# Altium footprint library Pathos.PcbLib: 67 footprints (part 4 of 5)
Each footprint in its own frame and in the unit in brackets; x right, y up, seen from the top. Pads: shape width x height; smd on the part's side, far side on the other; paste and mask are expansions set on the pad; w line width, h text height; cw(c..) or ccw(c..) is an arc to the next point about the centre after c.
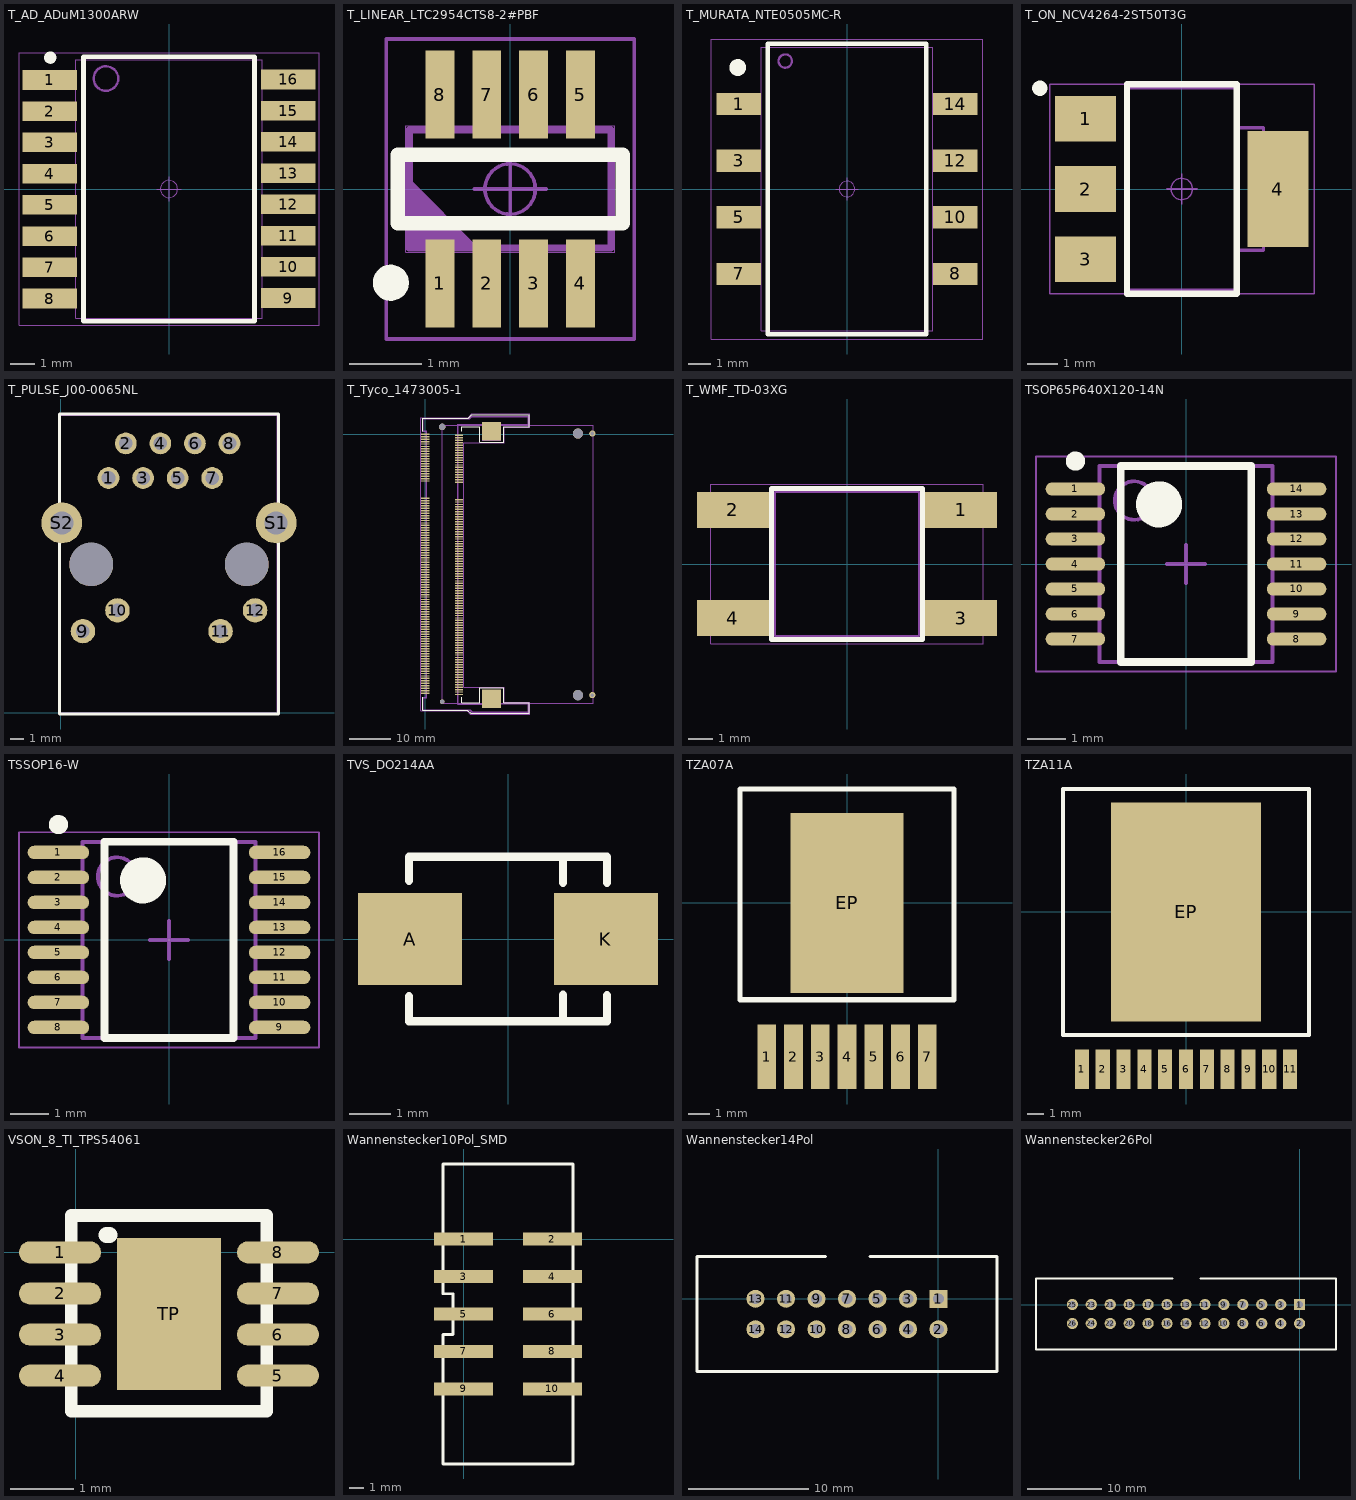
[diagram p3: the footprints below, top view; thin cyan lines are the x and y axes]

## T_AD_ADuM1300ARW [mm] "SOIC _W 16 pin"
height 2.65
pads (16):
  rect 2.2x0.8 smd: 1(-4.85,4.435) 2(-4.85,3.165) 3(-4.85,1.895) 4(-4.85,0.625) 5(-4.85,-0.645) 6(-4.85,-1.915) 7(-4.85,-3.185) 8(-4.85,-4.455) 9(4.85,-4.435) 10(4.85,-3.165) 11(4.85,-1.895) 12(4.85,-0.625) 13(4.85,0.645) 14(4.85,1.915) 15(4.85,3.185) 16(4.85,4.455)
Top Overlay:
  circle w0.25: c-4.829,5.343 r0.125
  lines w0.2: 3.481,-5.378 -3.481,-5.378 -3.481,5.377 3.481,5.377 3.481,-5.377
Mechanical 2:
  lines w0.001: -3.8,-5.25 -3.8,5.25 3.8,5.25 3.8,-5.25 -3.8,-5.25
Mechanical 3:
  circle w0.1: c-2.565,4.493 r0.5
  lines w0.1: -3.481,-5.378 -3.481,5.377 3.481,5.377 3.481,-5.378 -3.481,-5.378
Mechanical 13:
  circle w0.05: c0,0 r0.35
  lines w0.05: -0.5,0 0.5,0 ; 0,-0.5 0,0.5 ; -6.1,-5.536 6.1,-5.536 6.1,5.535 -6.1,5.535 -6.1,-5.536
3D body: height 2.65, standoff 0, extent -3.8,-5.25 3.8,5.25

## T_LINEAR_LTC2954CTS8-2#PBF [mm]
height 1
pads (8):
  rect 0.4x1.22 smd: 1(-0.975,-1.31) 2(-0.325,-1.31) 3(0.325,-1.31) 4(0.975,-1.31) 5(0.975,1.31) 6(0.325,1.31) 7(-0.325,1.31) 8(-0.975,1.31)
Top Overlay:
  circle w0.25: c-1.655,-1.3 r0.125
  lines w0.2: -1.56,-0.475 1.56,-0.475 1.56,0.475 -1.56,0.475 -1.56,-0.475
Mechanical 2:
  lines w0.001: -1.45,-0.875 -1.45,0.875 1.45,0.875 1.45,-0.875 -1.45,-0.875
Mechanical 3:
  lines w0.1: -1.4,-0.72 -1.3,-0.82 ; -1.4,-0.62 -1.2,-0.82 ; -1.4,-0.52 -1.1,-0.82 ; -1.4,-0.42 -1,-0.82 ; -1.4,-0.32 -0.9,-0.82 ; -1.4,-0.22 -0.8,-0.82 ; -1.4,-0.12 -0.7,-0.82 ; -1.4,-0.02 -0.6,-0.82 ; -1.4,0.08 -0.5,-0.82 ; -1.4,-0.82 1.4,-0.82 1.4,0.82 -1.4,0.82 -1.4,-0.82
Mechanical 13:
  circle w0.05: c0,0 r0.35
  lines w0.05: -1.72,-2.08 1.72,-2.08 ; -1.72,-2.07 -1.72,2.08 1.72,2.08 1.72,-2.07 ; -0.5,0 0.5,0 ; 0,-0.5 0,0.5
3D body: height 1, standoff 0, extent -1.45,-0.875 1.45,0.875

## T_MURATA_NTE0505MC-R [mm] "Isolated DC/DC converter"
height 6.6
pads (8):
  rect 2x1 smd: 1(-4.85,3.81) 3(-4.85,1.27) 5(-4.85,-1.27) 7(-4.85,-3.81) 8(4.85,-3.81) 10(4.85,-1.27) 12(4.85,1.27) 14(4.85,3.81)
Top Overlay:
  circle w0.5: c-4.905,5.45 r0.125
  lines w0.2: -3.56,-6.51 3.56,-6.51 3.56,6.51 -3.56,6.51 -3.56,-6.51
Mechanical 2:
  lines w0.001: -3.85,-6.35 3.85,-6.35 3.85,6.35 -3.85,6.35 -3.85,-6.35
Mechanical 3:
  circle w0.1: c-2.77,5.74 r0.3
  lines w0.1: -3.56,-6.51 -3.56,6.51 3.56,6.51 3.56,-6.51 -3.56,-6.51
Mechanical 13:
  circle w0.05: c0,0 r0.35
  lines w0.05: -0.5,0 0.5,0 ; 0,-0.5 0,0.5 ; -6.08,-6.73 6.08,-6.73 6.08,6.73 -6.08,6.73 -6.08,-6.73
3D body: height 6.6, standoff 0, extent -3.85,-6.35 3.85,6.35

## T_ON_NCV4264-2ST50T3G [mm] "SO4"
height 1.8
pads (4):
  rect 2x1.5 smd: 1(-3.15,2.3) 2(-3.15,0) 3(-3.15,-2.3)
  rect 2x3.8 smd: 4(3.15,0)
Top Overlay:
  circle w0.25: c-4.65,3.3 r0.125
  lines w0.2: -1.8,-3.43 -1.8,3.43 1.8,3.43 1.8,-3.43 -1.8,-3.43
Mechanical 2:
  lines w0.001: -1.85,-3.35 1.85,-3.35 1.85,3.35 -1.85,3.35 -1.85,-3.35
Mechanical 3:
  lines w0.1: 1.79,-2.006 2.68,-2.006 2.68,2.006 1.79,2.006 ; -1.79,-3.302 -1.79,3.302 1.79,3.302 1.79,-3.302 -1.79,-3.302
Mechanical 13:
  circle w0.05: c0,0 r0.35
  lines w0.05: -0.5,0 0.5,0 ; 0,-0.5 0,0.5 ; -4.33,-3.43 -4.33,3.43 4.33,3.43 4.33,-3.43 -4.33,-3.43
3D body: height 1.75, standoff 0, extent -1.85,-3.35 1.85,3.35

## T_PULSE_J00-0065NL [mm] "RJ45 Connector"
height 14.22
pads (16):
  round 1.6 hole 1: 1(3.495,17.24) 2(4.765,19.78) 3(6.035,17.24) 4(7.305,19.78) 5(8.575,17.24) 6(9.845,19.78) 7(11.115,17.24) 8(12.385,19.78)
  round 1.8 hole 1: 9(1.615,5.99) 10(4.155,7.51) 11(11.725,5.99) 12(14.265,7.51)
  round 3 hole 1.7: S1(15.815,13.94) S2(0.065,13.94)
  round 3.2 hole 3.2: ""(2.225,10.89) ""(13.655,10.89)
Top Overlay:
  lines w0.2: -0.102,12.446 -0.102,-0.102 15.983,-0.102 15.983,12.446 ; -0.102,15.418 -0.102,21.942 15.983,21.942 15.983,15.418
Mechanical 2:
  lines w0.001: 0,0 0,21.84 15.88,21.84 15.88,0 0,0
Mechanical 3:
  lines w0.1: -0.102,-0.102 -0.102,21.941 15.983,21.941 15.983,-0.102 -0.102,-0.102
Mechanical 13:
  region: 5.81,17.065 5.81,17.415 6.26,17.415 6.26,17.065
  lines w0.05: -0.102,-0.102 15.981,-0.102 15.981,12.701 ccw(c15.816,13.94) 15.981,15.179 15.981,21.941 -0.102,21.941 -0.102,15.179 ccw(c0.064,13.94) -0.102,12.701 -0.102,-0.102
3D body: height 13.32, standoff -3.23, extent 0,0 15.88,21.84

## T_Tyco_1473005-1 [mm] "SODIMM Connector"
height 5.2
pads (208):
  rect 2x0.35 smd: 1(0,0) 2(8.2,-0.3) 3(0,-0.6) 4(8.2,-0.9) 5(0,-1.2) 6(8.2,-1.5) 7(0,-1.8) 8(8.2,-2.1) 9(0,-2.4) 10(8.2,-2.7) 11(0,-3) 12(8.2,-3.3) 13(0,-3.6) 14(8.2,-3.9) 15(0,-4.2) 16(8.2,-4.5) 17(0,-4.8) 18(8.2,-5.1) 19(0,-5.4) 20(8.2,-5.7) 21(0,-6) 22(8.2,-6.3) 23(0,-6.6) 24(8.2,-6.9) 25(0,-7.2) 26(8.2,-7.5) 27(0,-7.8) 28(8.2,-8.1) 29(0,-8.4) 30(8.2,-8.7) 31(0,-9) 32(8.2,-9.3) 33(0,-9.6) 34(8.2,-9.9) 35(0,-10.2) 36(8.2,-10.5) 37(0,-10.8) 38(8.2,-11.1) 39(0,-11.4) 40(8.2,-11.7) 41(0,-15.6) 42(8.2,-15.9) 43(0,-16.2) 44(8.2,-16.5) 45(0,-16.8) 46(8.2,-17.1) 47(0,-17.4) 48(8.2,-17.7) 49(0,-18) 50(8.2,-18.3) 51(0,-18.6) 52(8.2,-18.9) 53(0,-19.2) 54(8.2,-19.5) 55(0,-19.8) 56(8.2,-20.1) 57(0,-20.4) 58(8.2,-20.7) 59(0,-21) 60(8.2,-21.3) 61(0,-21.6) 62(8.2,-21.9) 63(0,-22.2) 64(8.2,-22.5) 65(0,-22.8) 66(8.2,-23.1) 67(0,-23.4) 68(8.2,-23.7) 69(0,-24) 70(8.2,-24.3) 71(0,-24.6) 72(8.2,-24.9) 73(0,-25.2) 74(8.2,-25.5) 75(0,-25.8) 76(8.2,-26.1) 77(0,-26.4) 78(8.2,-26.7) 79(0,-27) 80(8.2,-27.3) 81(0,-27.6) 82(8.2,-27.9) 83(0,-28.2) 84(8.2,-28.5) 85(0,-28.8) 86(8.2,-29.1) 87(0,-29.4) 88(8.2,-29.7) 89(0,-30) 90(8.2,-30.3) 91(0,-30.6) 92(8.2,-30.9) 93(0,-31.2) 94(8.2,-31.5) 95(0,-31.8) 96(8.2,-32.1) 97(0,-32.4) 98(8.2,-32.7) 99(0,-33) 100(8.2,-33.3) 101(0,-33.6) 102(8.2,-33.9) 103(0,-34.2) 104(8.2,-34.5) 105(0,-34.8) 106(8.2,-35.1) 107(0,-35.4) 108(8.2,-35.7) 109(0,-36) 110(8.2,-36.3) 111(0,-36.6) 112(8.2,-36.9) 113(0,-37.2) 114(8.2,-37.5) 115(0,-37.8) 116(8.2,-38.1) 117(0,-38.4) 118(8.2,-38.7) 119(0,-39) 120(8.2,-39.3) 121(0,-39.6) 122(8.2,-39.9) 123(0,-40.2) 124(8.2,-40.5) 125(0,-40.8) 126(8.2,-41.1) 127(0,-41.4) 128(8.2,-41.7) 129(0,-42) 130(8.2,-42.3) 131(0,-42.6) 132(8.2,-42.9) 133(0,-43.2) 134(8.2,-43.5) 135(0,-43.8) 136(8.2,-44.1) 137(0,-44.4) 138(8.2,-44.7) 139(0,-45) 140(8.2,-45.3) 141(0,-45.6) 142(8.2,-45.9) 143(0,-46.2) 144(8.2,-46.5) 145(0,-46.8) 146(8.2,-47.1) 147(0,-47.4) 148(8.2,-47.7) 149(0,-48) 150(8.2,-48.3) 151(0,-48.6) 152(8.2,-48.9) 153(0,-49.2) 154(8.2,-49.5) 155(0,-49.8) 156(8.2,-50.1) 157(0,-50.4) 158(8.2,-50.7) 159(0,-51) 160(8.2,-51.3) 161(0,-51.6) 162(8.2,-51.9) 163(0,-52.2) 164(8.2,-52.5) 165(0,-52.8) 166(8.2,-53.1) 167(0,-53.4) 168(8.2,-53.7) 169(0,-54) 170(8.2,-54.3) 171(0,-54.6) 172(8.2,-54.9) 173(0,-55.2) 174(8.2,-55.5) 175(0,-55.8) 176(8.2,-56.1) 177(0,-56.4) 178(8.2,-56.7) 179(0,-57) 180(8.2,-57.3) 181(0,-57.6) 182(8.2,-57.9) 183(0,-58.2) 184(8.2,-58.5) 185(0,-58.8) 186(8.2,-59.1) 187(0,-59.4) 188(8.2,-59.7) 189(0,-60) 190(8.2,-60.3) 191(0,-60.6) 192(8.2,-60.9) 193(0,-61.2) 194(8.2,-61.5) 195(0,-61.8) 196(8.2,-62.1) 197(0,-62.4) 198(8.2,-62.7) 199(0,-63) 200(8.2,-63.3)
  round 1.1 hole 1.1 unplated: ""(4.1,-65.05)
  round 1.6 hole 1.6 unplated: ""(4.1,1.75)
  rect 4.6x4.5 smd: ""(16.1,-64.35) ""(16.1,0.75)
  round 2.5 hole 2.5 unplated: ""(37.1,-63.45) ""(37.1,0.15)
  round 1.5 hole 0.9: ""(40.6,-63.45) ""(40.6,0.15)
Top Overlay:
  lines w0.2: -0.635,-63.962 -0.635,-67.1 7,-67.1 ; -0.635,0.715 -0.635,3.881 6.969,3.881 6.97,3.88 10.48,3.88 11.35,4.75 25.273,4.75 25.273,1.85 19.05,1.85 19.05,-1.951 13.2,-1.951 13.2,1.75 8.9,1.75 8.9,0.715 ; 6.95,-67.1 10.25,-67.1 11.05,-67.9 25.273,-67.9 25.273,-65.35 ; 8.9,-65.3 13.208,-65.3 13.208,-61.641 19.05,-61.641 19.05,-65.35 25.2,-65.35 ; 8.9,-65.282 8.9,-63.962
Mechanical 2:
  lines w0.001: -0.635,-67.102 6.223,-67.102 10.795,-67.102 11.303,-67.61 25.146,-67.61 25.146,-65.451 18.288,-65.451 18.288,-62.276 13.97,-62.276 13.97,-65.451 8.001,-65.451 8.001,2.24 13.97,2.24 13.97,-1.443 18.288,-1.443 18.288,2.24 25.146,2.24 25.146,4.399 11.303,4.399 10.795,3.891 6.223,3.891 -0.635,3.891 -0.635,0.716 0.254,0.716 0.254,-63.962 -0.635,-63.962 -0.635,-67.102 ; 4.1,-65.45 40.8,-65.45 40.8,2.15 4.1,2.15 4.1,-65.45
Mechanical 3:
  lines w0.1: -0.508,-66.975 5.969,-66.975 10.922,-66.975 11.43,-67.483 25.019,-67.483 25.019,-65.578 18.161,-65.578 18.161,-62.403 14.097,-62.403 14.097,-65.705 7.874,-65.705 7.874,2.367 14.097,2.367 14.097,-1.189 18.161,-1.189 18.161,2.367 25.019,2.367 25.019,4.272 11.303,4.272 10.795,3.764 5.969,3.764 -0.508,3.764 -0.508,0.843 0.381,0.843 0.381,-64.054 -0.508,-64.054 -0.508,-66.975
Mechanical 13:
  lines w0.05: -1.141,-67.249 10.189,-67.249 10.983,-68.043 11.251,-68.043 25.413,-68.043 25.413,-65.211 19.191,-65.211 19.191,-61.502 9.374,-61.502 9.374,-2.1 19.2,-2.1 19.2,1.705 25.42,1.705 25.42,4.897 11.289,4.897 10.42,4.028 -1.141,4.028 -1.141,-67.249
3D body: height 5.22, standoff -0.68, extent -0.9,-67.4 25.15,4.1

## T_WMF_TD-03XG [mm] "Push Button"
height 7.8
pads (4):
  rect 3x1.5 smd: 1(4.75,2.25) 2(-4.75,2.25) 3(4.75,-2.25) 4(-4.75,-2.25)
Top Overlay:
  lines w0.2: -3.15,-3.15 -3.15,3.15 3.15,3.15 3.15,-3.15 -3.15,-3.15
Mechanical 2:
  lines w0.001: -4.05,-2.6 -4.05,-1.9 ; -4.05,1.9 -4.05,2.6 ; -3.85,-2.6 -3.85,-1.9 ; -3.85,1.9 -3.85,2.6 ; -3,-2.6 -5.15,-2.6 -5.15,-1.9 -3,-1.9 ; -3,1.9 -5.15,1.9 -5.15,2.6 -3,2.6 ; 3,-2.6 5.15,-2.6 5.15,-1.9 3,-1.9 ; 3,1.9 5.15,1.9 5.15,2.6 3,2.6 ; 3.85,-2.6 3.85,-1.9 ; 3.85,1.9 3.85,2.6 ; 4.05,-2.6 4.05,-1.9 ; 4.05,1.9 4.05,2.6 ; -3,-3 -3,3 3,3 3,-3 -3,-3
Mechanical 3:
  lines w0.1: -3,-3 -3,3 3,3 3,-3 -3,-3
Mechanical 13:
  lines w0.05: -5.675,-3.321 -5.675,3.321 5.675,3.321 5.675,-3.321 -5.675,-3.321
3D body: height 1, standoff 0.8, extent 3,1.9 3.85,2.6
3D body: height 1, standoff 0.8, extent 3,-2.6 3.85,-1.9
3D body: height 1, standoff 0.8, extent -3.85,-2.6 -3,-1.9
3D body: height 1, standoff 0.8, extent -3.85,1.9 -3,2.6
3D body: height 1, standoff 0, extent -4.05,1.9 -3.85,2.6
3D body: height 1, standoff 0, extent -4.05,-2.6 -3.85,-1.9
3D body: height 1, standoff 0, extent 3.85,-2.6 4.05,-1.9
3D body: height 1, standoff 0, extent 3.85,1.9 4.05,2.6
3D body: height 0.2, standoff 0, extent 4.05,1.9 5.15,2.6
3D body: height 0.2, standoff 0, extent 4.05,-2.6 5.15,-1.9
3D body: height 0.2, standoff 0, extent -5.15,-2.6 -4.05,-1.9
3D body: height 0.2, standoff 0, extent -5.15,1.9 -4.05,2.6
3D body: height 3.7, standoff 3.5, extent 1.754,-2.749 2.75,-1.751
3D body: height 3.7, standoff 3.5, extent -2.746,-2.749 -1.75,-1.751
3D body: height 3.7, standoff 3.5, extent -2.746,1.751 -1.75,2.749
3D body: height 3.7, standoff 3.5, extent 1.754,1.751 2.75,2.749
3D body: height 3.49, standoff 0, extent -3,-3 3,3
3D body: height 5.1, standoff 3.5, extent -1.736,-1.746 1.75,1.747
3D body: height 3.5, standoff 3.49, extent -3,-3 3,3

## TSOP65P640X120-14N [mm] "TSOP, 14-Leads, Body 5.00x4.40mm, Pitch 0.65mm, IPC Medium Density"
height 1.2
pads (14):
  oval 1.55x0.35 smd: 1(-2.875,1.95) 2(-2.875,1.3) 3(-2.875,0.65) 4(-2.875,0) 5(-2.875,-0.65) 6(-2.875,-1.3) 7(-2.875,-1.95) 8(2.875,-1.95) 9(2.875,-1.3) 10(2.875,-0.65) 11(2.875,0) 12(2.875,0.65) 13(2.875,1.3) 14(2.875,1.95)
Top Overlay:
  circle w0.25: c-2.875,2.675 r0.125
  circle w0.6: c-0.7,1.55 r0.3
  lines w0.2: -1.7,-2.55 -1.7,2.55 1.7,2.55 1.7,-2.55 -1.7,-2.55
Mechanical 13:
  circle w0.1: c-1.35,1.65 r0.5
  lines w0.1: -2.25,-2.55 -2.25,2.55 2.25,2.55 2.25,-2.55 -2.25,-2.55
Mechanical 15:
  lines w0.05: -3.9,-2.8 -3.9,2.8 3.9,2.8 3.9,-2.8 -3.9,-2.8
  lines w0.1: -0.5,0 0.5,0 ; 0,-0.5 0,0.5
3D body: height 1.2, standoff 0.09, extent -2.25,-2.55 2.25,2.55

## TSSOP16-W [mm]
height 1.2
pads (16):
  oval 1.6x0.35 smd: 1(-2.875,2.275) 2(-2.875,1.625) 3(-2.875,0.975) 4(-2.875,0.325) 5(-2.875,-0.325) 6(-2.875,-0.975) 7(-2.875,-1.625) 8(-2.875,-2.275) 9(2.875,-2.275) 10(2.875,-1.625) 11(2.875,-0.975) 12(2.875,-0.325) 13(2.875,0.325) 14(2.875,0.975) 15(2.875,1.625) 16(2.875,2.275)
Top Overlay:
  circle w0.25: c-2.875,3 r0.125
  circle w0.6: c-0.675,1.55 r0.3
  lines w0.2: -1.675,-2.55 -1.675,2.55 1.675,2.55 1.675,-2.55 -1.675,-2.55
Mechanical 13:
  circle w0.1: c-1.35,1.65 r0.5
  lines w0.1: -2.25,-2.55 -2.25,2.55 2.25,2.55 2.25,-2.55 -2.25,-2.55
Mechanical 15:
  lines w0.05: -3.9,-2.8 -3.9,2.8 3.9,2.8 3.9,-2.8 -3.9,-2.8
  lines w0.1: -0.5,0 0.5,0 ; 0,-0.5 0,0.5
3D body: height 1.2, standoff 0.05, extent -2.25,-2.55 2.25,2.55

## TVS_DO214AA [mm]
pads (2):
  rect 2.5x2.2 smd: A(-2.35,0) K(2.35,0)
Top Overlay:
  lines w0.2: -2.375,-1.981 -2.375,-1.372 ; -2.375,-1.975 2.375,-1.975 ; -2.375,1.401 -2.375,1.975 2.375,1.975 2.375,1.346 ; 1.321,-1.975 1.321,-1.34 ; 1.321,1.352 1.321,1.981 ; 2.375,-1.981 2.375,-1.346

## TZA07A [mm]
pads (8):
  rect 0.89x3.06 smd: 1(-3.81,-7.305) 2(-2.54,-7.305) 3(-1.27,-7.305) 4(0,-7.305) 5(1.27,-7.305) 6(2.54,-7.305) 7(3.81,-7.305)
  rect 5.35x8.54 smd paste+0: EP(0,0)
Top Overlay:
  lines w0.254: -5.08,-4.6 5.08,-4.6 5.08,5.4 -5.08,5.4 -5.08,-4.6
3D body: height 4.6, standoff 0, extent -5.08,-4.6 5.08,5.4

## TZA11A [mm] "Used for LMZ13610"
height 5.9
pads (12):
  rect 0.86x2.41 smd: 1(-6.35,-9.6) 2(-5.08,-9.6) 3(-3.81,-9.6) 4(-2.54,-9.6) 5(-1.27,-9.6) 6(0,-9.6) 7(1.27,-9.6) 8(2.54,-9.6) 9(3.81,-9.6) 10(5.08,-9.6) 11(6.35,-9.6)
  rect 9.126x13.37 smd: EP(0,0)
Top Overlay:
  lines w0.254: -7.5,-7.5 -7.5,7.5 7.5,7.5 7.5,-7.5 -7.5,-7.5
3D body: height 6, standoff 0, extent -7.5,-7.5 7.5,7.5

## VSON_8_TI_TPS54061 [mm]
pads (9):
  oval 1.3x0.35 smd: 1(-0.25,0) 2(-0.25,-0.65) 3(-0.25,-1.3) 4(-0.25,-1.95) 5(3.2,-1.95) 6(3.2,-1.3) 7(3.2,-0.65) 8(3.2,0)
  rect 1.65x2.4 smd: TP(1.473,-0.975)
Top Overlay:
  lines w0.2: 3.025,0.584 3.025,-2.515 -0.075,-2.515 -0.075,0.584 3.025,0.585
  lines w0.254: 0.483,0.279 0.533,0.279
3D body: height 1, standoff 0, extent -0.075,-2.515 3.025,0.584

## Wannenstecker10Pol_SMD [mm]
pads (10):
  rect 4x0.9 smd: 1(0,0) 2(6,0) 3(0,-2.54) 4(6,-2.54) 5(0,-5.08) 6(6,-5.08) 7(0,-7.62) 8(6,-7.62) 9(0,-10.16) 10(6,-10.16)
Top Overlay:
  lines w0.2: -1.4,-15.24 -1.4,-6.477 -0.737,-6.477 -0.737,-3.708 -1.4,-3.708 -1.4,5.08 7.4,5.08 7.4,-15.24 -1.4,-15.24
3D body: height 10.1, standoff 1.3, extent -1.4,-15.24 7.4,5.08

## Wannenstecker14Pol [mm]
pads (14):
  rect 1.5x1.5 hole 0.9: 1(0,0)
  round 1.5 hole 0.9: 2(0,-2.54) 3(-2.54,0) 4(-2.54,-2.54) 5(-5.08,0) 6(-5.08,-2.54) 7(-7.62,0) 8(-7.62,-2.54) 9(-10.16,0) 10(-10.16,-2.54) 11(-12.7,0) 12(-12.7,-2.54) 13(-15.24,0) 14(-15.24,-2.54)
Top Overlay:
  lines w0.254: -9.398,3.505 -20.115,3.505 -20.115,-6.045 4.875,-6.045 4.875,3.505 -5.715,3.505
3D body: height 0.5, standoff 0, extent -20.115,-6.045 4.875,3.505
3D body: height 6.57, standoff -3, extent -15.55,-0.31 -14.933,0.309
3D body: height 6.57, standoff -3, extent -15.55,-2.85 -14.933,-2.231
3D body: height 6.57, standoff -3, extent -13.01,-0.31 -12.393,0.309
3D body: height 6.57, standoff -3, extent -13.01,-2.85 -12.393,-2.231
3D body: height 6.57, standoff -3, extent -10.47,-0.31 -9.853,0.309
3D body: height 6.57, standoff -3, extent -10.47,-2.85 -9.853,-2.231
3D body: height 6.57, standoff -3, extent -7.93,-0.31 -7.313,0.309
3D body: height 6.57, standoff -3, extent -7.93,-2.85 -7.313,-2.231
3D body: height 6.57, standoff -3, extent -5.39,-0.31 -4.773,0.309
3D body: height 6.57, standoff -3, extent -5.39,-2.85 -4.773,-2.231
3D body: height 6.57, standoff -3, extent -2.85,-0.31 -2.233,0.309
3D body: height 6.57, standoff -3, extent -2.85,-2.85 -2.233,-2.231
3D body: height 6.57, standoff -3, extent -0.31,-0.31 0.307,0.309
3D body: height 6.57, standoff -3, extent -0.31,-2.85 0.307,-2.231
3D body: height 9.57, standoff 0, extent -20.115,-6.045 4.875,3.505

## Wannenstecker26Pol [mm]
pads (26):
  rect 1.5x1.5 hole 0.9: 1(0,0)
  round 1.5 hole 0.9: 2(0,-2.54) 3(-2.54,0) 4(-2.54,-2.54) 5(-5.08,0) 6(-5.08,-2.54) 7(-7.62,0) 8(-7.62,-2.54) 9(-10.16,0) 10(-10.16,-2.54) 11(-12.7,0) 12(-12.7,-2.54) 13(-15.24,0) 14(-15.24,-2.54) 15(-17.78,0) 16(-17.78,-2.54) 17(-20.32,0) 18(-20.32,-2.54) 19(-22.86,0) 20(-22.86,-2.54) 21(-25.4,0) 22(-25.4,-2.54) 23(-27.94,0) 24(-27.94,-2.54) 25(-30.48,0) 26(-30.48,-2.54)
Top Overlay:
  lines w0.254: -17.018,3.505 -35.355,3.505 -35.355,-6.045 4.875,-6.045 4.875,3.505 -13.335,3.505
3D body: height 6.57, standoff -3, extent -0.31,-2.85 0.307,-2.231
3D body: height 6.57, standoff -3, extent -0.31,-0.31 0.307,0.309
3D body: height 6.57, standoff -3, extent -2.85,-2.85 -2.233,-2.231
3D body: height 6.57, standoff -3, extent -2.85,-0.31 -2.233,0.309
3D body: height 6.57, standoff -3, extent -5.39,-2.85 -4.773,-2.231
3D body: height 6.57, standoff -3, extent -5.39,-0.31 -4.773,0.309
3D body: height 6.57, standoff -3, extent -7.93,-2.85 -7.313,-2.231
3D body: height 6.57, standoff -3, extent -7.93,-0.31 -7.313,0.309
3D body: height 6.57, standoff -3, extent -10.47,-2.85 -9.853,-2.231
3D body: height 6.57, standoff -3, extent -10.47,-0.31 -9.853,0.309
3D body: height 6.57, standoff -3, extent -13.01,-2.85 -12.393,-2.231
3D body: height 6.57, standoff -3, extent -13.01,-0.31 -12.393,0.309
3D body: height 6.57, standoff -3, extent -15.55,-2.85 -14.933,-2.231
3D body: height 6.57, standoff -3, extent -15.55,-0.31 -14.933,0.309
3D body: height 6.57, standoff -3, extent -18.09,-2.85 -17.473,-2.231
3D body: height 6.57, standoff -3, extent -18.09,-0.31 -17.473,0.309
3D body: height 6.57, standoff -3, extent -20.63,-2.85 -20.013,-2.231
3D body: height 6.57, standoff -3, extent -20.63,-0.31 -20.013,0.309
3D body: height 6.57, standoff -3, extent -23.17,-2.85 -22.553,-2.231
3D body: height 6.57, standoff -3, extent -23.17,-0.31 -22.553,0.309
3D body: height 6.57, standoff -3, extent -25.71,-2.85 -25.093,-2.231
3D body: height 6.57, standoff -3, extent -25.71,-0.31 -25.093,0.309
3D body: height 6.57, standoff -3, extent -28.25,-2.85 -27.633,-2.231
3D body: height 6.57, standoff -3, extent -28.25,-0.31 -27.633,0.309
3D body: height 6.57, standoff -3, extent -30.79,-2.85 -30.173,-2.231
3D body: height 6.57, standoff -3, extent -30.79,-0.31 -30.173,0.309
3D body: height 9.57, standoff 0, extent -35.35,-6.05 4.85,3.5
3D body: height 0.5, standoff 0, extent -35.225,-5.925 4.75,3.375